# Altium schematic symbol library STM32.SchLib: 24 symbols
Pins are listed as number, name and electrical type; pins without a type are passive.

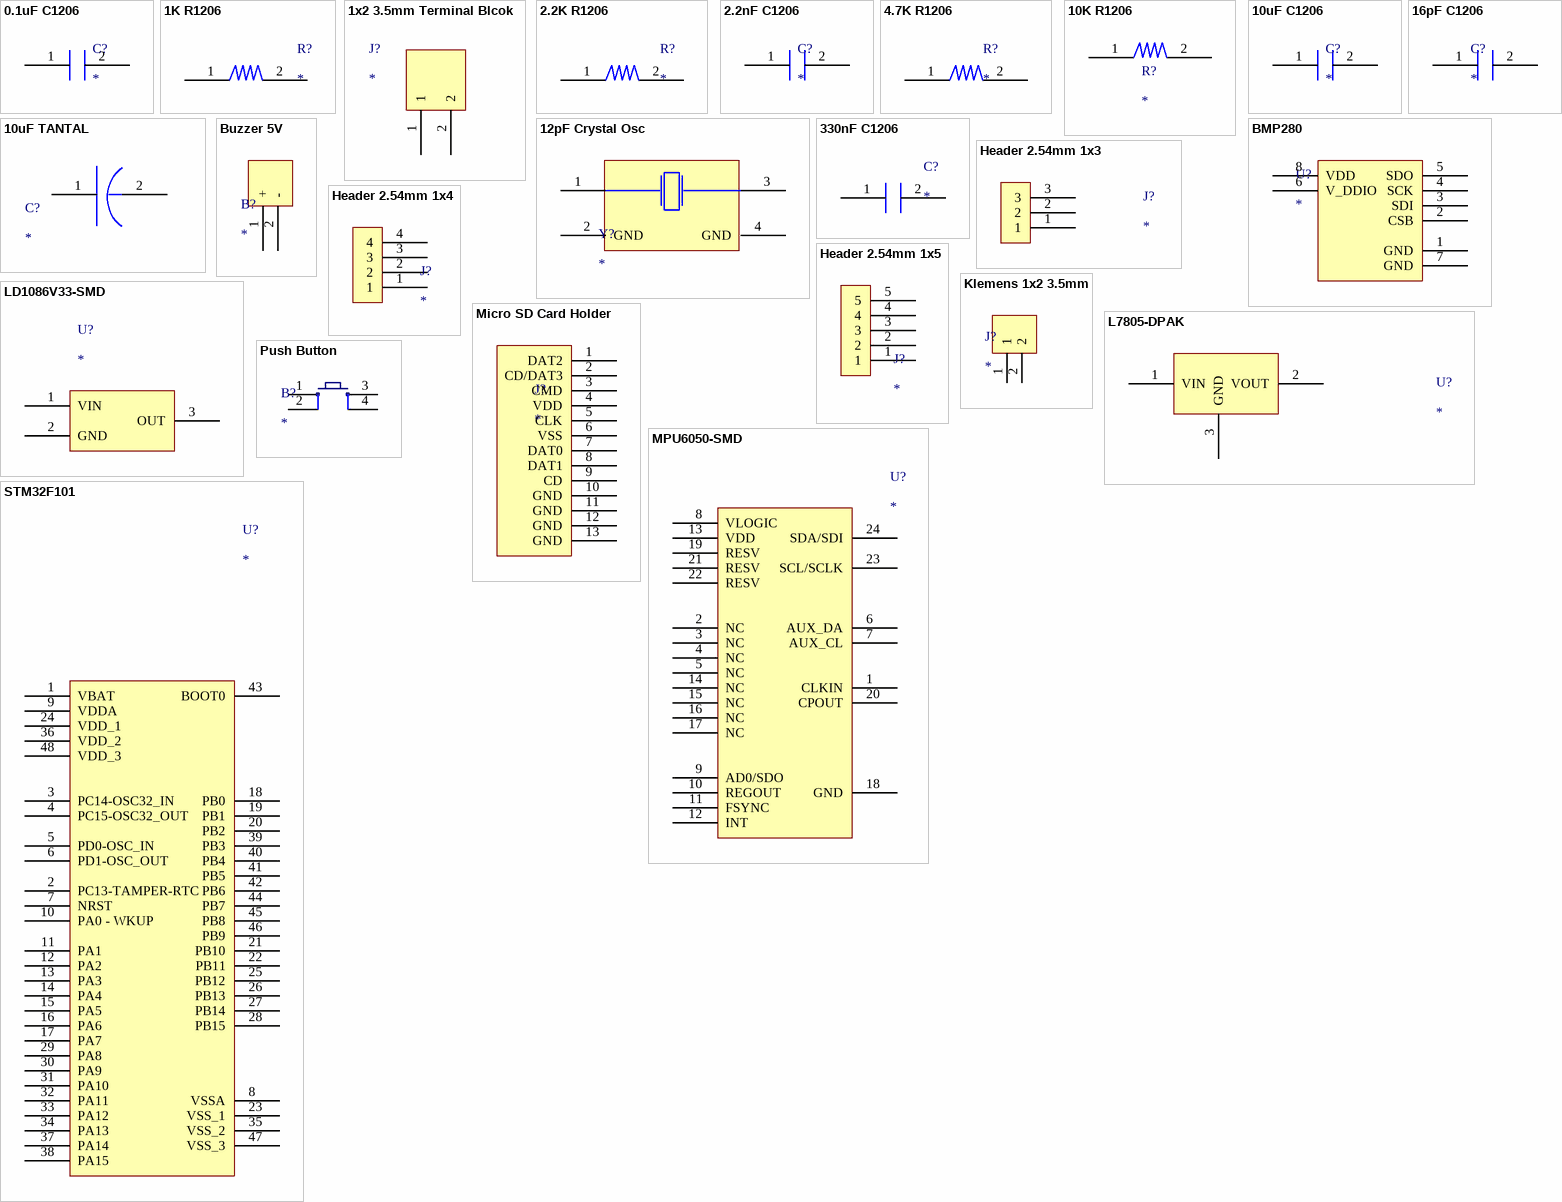
[diagram p0: symbols 0.1uF C1206 to STM32F101]

## 0.1uF C1206
designator C?
C1206 Capacitor 0.1uF 50V
footprint C1206 (C1206T104K5RAL7800 0.1 uF 50V Capacitor)
footprint C1206 330nF (C1206 330nF Capacitor C1206 Family)
pins: 1, 2

## 1K R1206
designator R?
1K R1206 SMD Resistor
footprint R1206 Resistor
pins: 1, 2

## 1x2 3.5mm Terminal Blcok
designator J?
1x2 3.5mm Klemens
footprint 1x2 3.5mm Terminal Block
pins: 1, 2

## 2.2K R1206
designator R?
2.2K R1206 SMD Resistor
footprint R1206 Resistor
pins: 1, 2

## 2.2nF C1206
designator C?
2.2nF C1206 Capaciitor
footprint C1206 Capacitor (1206 Capacitor Footprint)
pins: 1, 2

## 4.7K R1206
designator R?
4.7K R1206 SMD Resistor
footprint R1206 Resistor
pins: 1, 2

## 10K R1206
designator R?
10K R1206 SMD Resistor
footprint R1206 Resistor
pins: 1, 2

## 10uF C1206
designator C?
10uF C1206 Capacitor
footprint C1206 Capacitor (1206 Capacitor Footprint)
pins: 1, 2

## 10uF TANTAL
designator C?
10uF C1206 Tantal Capacitor
footprint C1206 TANTAL 10uF Capacitor
pins: 1, 2

## 12pF Crystal Osc
designator Y?
footprint 12pF Crystal Osc. (12pF Crystal Osc RH100 Crystal Osc)
pins: 1 0, 2 GND, 3, 4 GND

## 16pF C1206
designator C?
16pF C1206 Capacitor
footprint C1206 Capacitor (1206 Capacitor Footprint)
pins: 1, 2

## 330nF C1206
designator C?
330 nF C1206 Capacitor
footprint C1206 330nF (C1206 330nF Capacitor C1206 Family)
pins: 1, 2

## BMP280
designator U?
BMP 280 BOSCH PRESSURE SENSOR 8 PIN
footprint BMP280 (BMP 280 Digital pressure sensor)
pins: 1 GND, 2 CSB, 3 SDI, 4 SCK, 5 SDO, 6 V_DDIO, 7 GND, 8 VDD

## Buzzer 5V
designator B?
Buzzer 5V
footprint Buzzer 5V
pins: 1 +, 2 -

## Header 2.54mm 1x3
designator J?
footprint HEADER 2.54mm 1x3 (HEADER 2.54mm aralıklı 3 delikli header)
pins: 1, 2, 3

## Header 2.54mm 1x4
designator J?
footprint HEADER 2.54MM 1X4
pins: 1, 2, 3, 4

## Header 2.54mm 1x5
designator J?
footprint HEADER 2.54MM 1X5
pins: 1, 2, 3, 4, 5

## Klemens 1x2 3.5mm
designator J?
Klemens 1x2 3.5mm
footprint Klemens 1x2 - 3.5mm
pins: 1, 2

## L7805-DPAK
designator U?
L7805-DPAK 5V REGULATOR SMD 3PIN
footprint L7805-DPAK (D-PAK, 3-Pads, Body 6,20x6,66mm (max), IPC Medium Density)
pins: 1 VIN, 2 VOUT, 3 GND

## LD1086V33-SMD
designator U?
LD1086V33-SMD REGULATOR DPAK
footprint LD108633 3.3V SMD DPAK (LD108633 3.3V SMD DPAK REGULATOR)
pins: 1 VIN, 2 GND, 3 OUT

## Micro SD Card Holder
designator J?
KLS1-TF-003 MICRO SD CARD
footprint KLS1-TF-003 (SD CARD HOLDER)
pins: 1 DAT2, 2 CD/DAT3, 3 CMD, 4 VDD, 5 CLK, 6 VSS, 7 DAT0, 8 DAT1, 9 CD, 10 GND, 11 GND, 12 GND, 13 GND

## MPU6050-SMD
designator U?
MPU6050-SMD 24PIN
footprint MPU6050 QFN (QFN, 24-Leads, Body 4,00x4,00mm, Pitch 0,50mm, Thermal Pad 2,70x2,60mm, IPC Medium Density)
pins: 1 CLKIN, 2 NC, 3 NC, 4 NC, 5 NC, 6 AUX_DA, 7 AUX_CL, 8 VLOGIC, 9 AD0/SDO, 10 REGOUT, 11 FSYNC, 12 INT, 13 VDD, 14 NC, 15 NC, 16 NC, 17 NC, 18 GND, 19 RESV, 20 CPOUT, 21 RESV, 22 RESV, 23 SCL/SCLK, 24 SDA/SDI

## Push Button
designator B?
Smd Push Button; Satın Alma Linki: https://urun.n11.com/diger/mini-pushbutton-switch-smd-P227461537?gclid=Cj0KCQjwkoDmBRCcARIsAG3xzl8Y_-jeD7HocNM6lvuZ_rVp83568XPGtNzlPwXWLph8oCRqo0yh87UaApZYEALw_wcB&gclsrc=aw.ds
footprint PUSB BUTTON-SMD
pins: 1, 2, 3, 4

## STM32F101
designator U?
STM32F101 48 PIN MICROPROSESSOR
footprint LQFP48-STM (TSQFP, 48-Leads, Body 7,00x7,00mm, Pitch 0,50mm, IPC Medium Density)
pins: 1 VBAT, 2 PC13-TAMPER-RTC, 3 PC14-OSC32_IN, 4 PC15-OSC32_OUT, 5 PD0-OSC_IN, 6 PD1-OSC_OUT, 7 NRST, 8 VSSA, 9 VDDA, 10 PA0 - WKUP, 11 PA1, 12 PA2, 13 PA3, 14 PA4, 15 PA5, 16 PA6, 17 PA7, 18 PB0, 19 PB1, 20 PB2, 21 PB10, 22 PB11, 23 VSS_1, 24 VDD_1, 25 PB12, 26 PB13, 27 PB14, 28 PB15, 29 PA8, 30 PA9, 31 PA10, 32 PA11, 33 PA12, 34 PA13, 35 VSS_2, 36 VDD_2, 37 PA14, 38 PA15, 39 PB3, 40 PB4, 41 PB5, 42 PB6, 43 BOOT0, 44 PB7, 45 PB8, 46 PB9, 47 VSS_3, 48 VDD_3